# Altium integrated library Analog Devices Audio and Video Video Amps, Buffers and Filters.IntLib: 89 symbols (part 2 of 5)
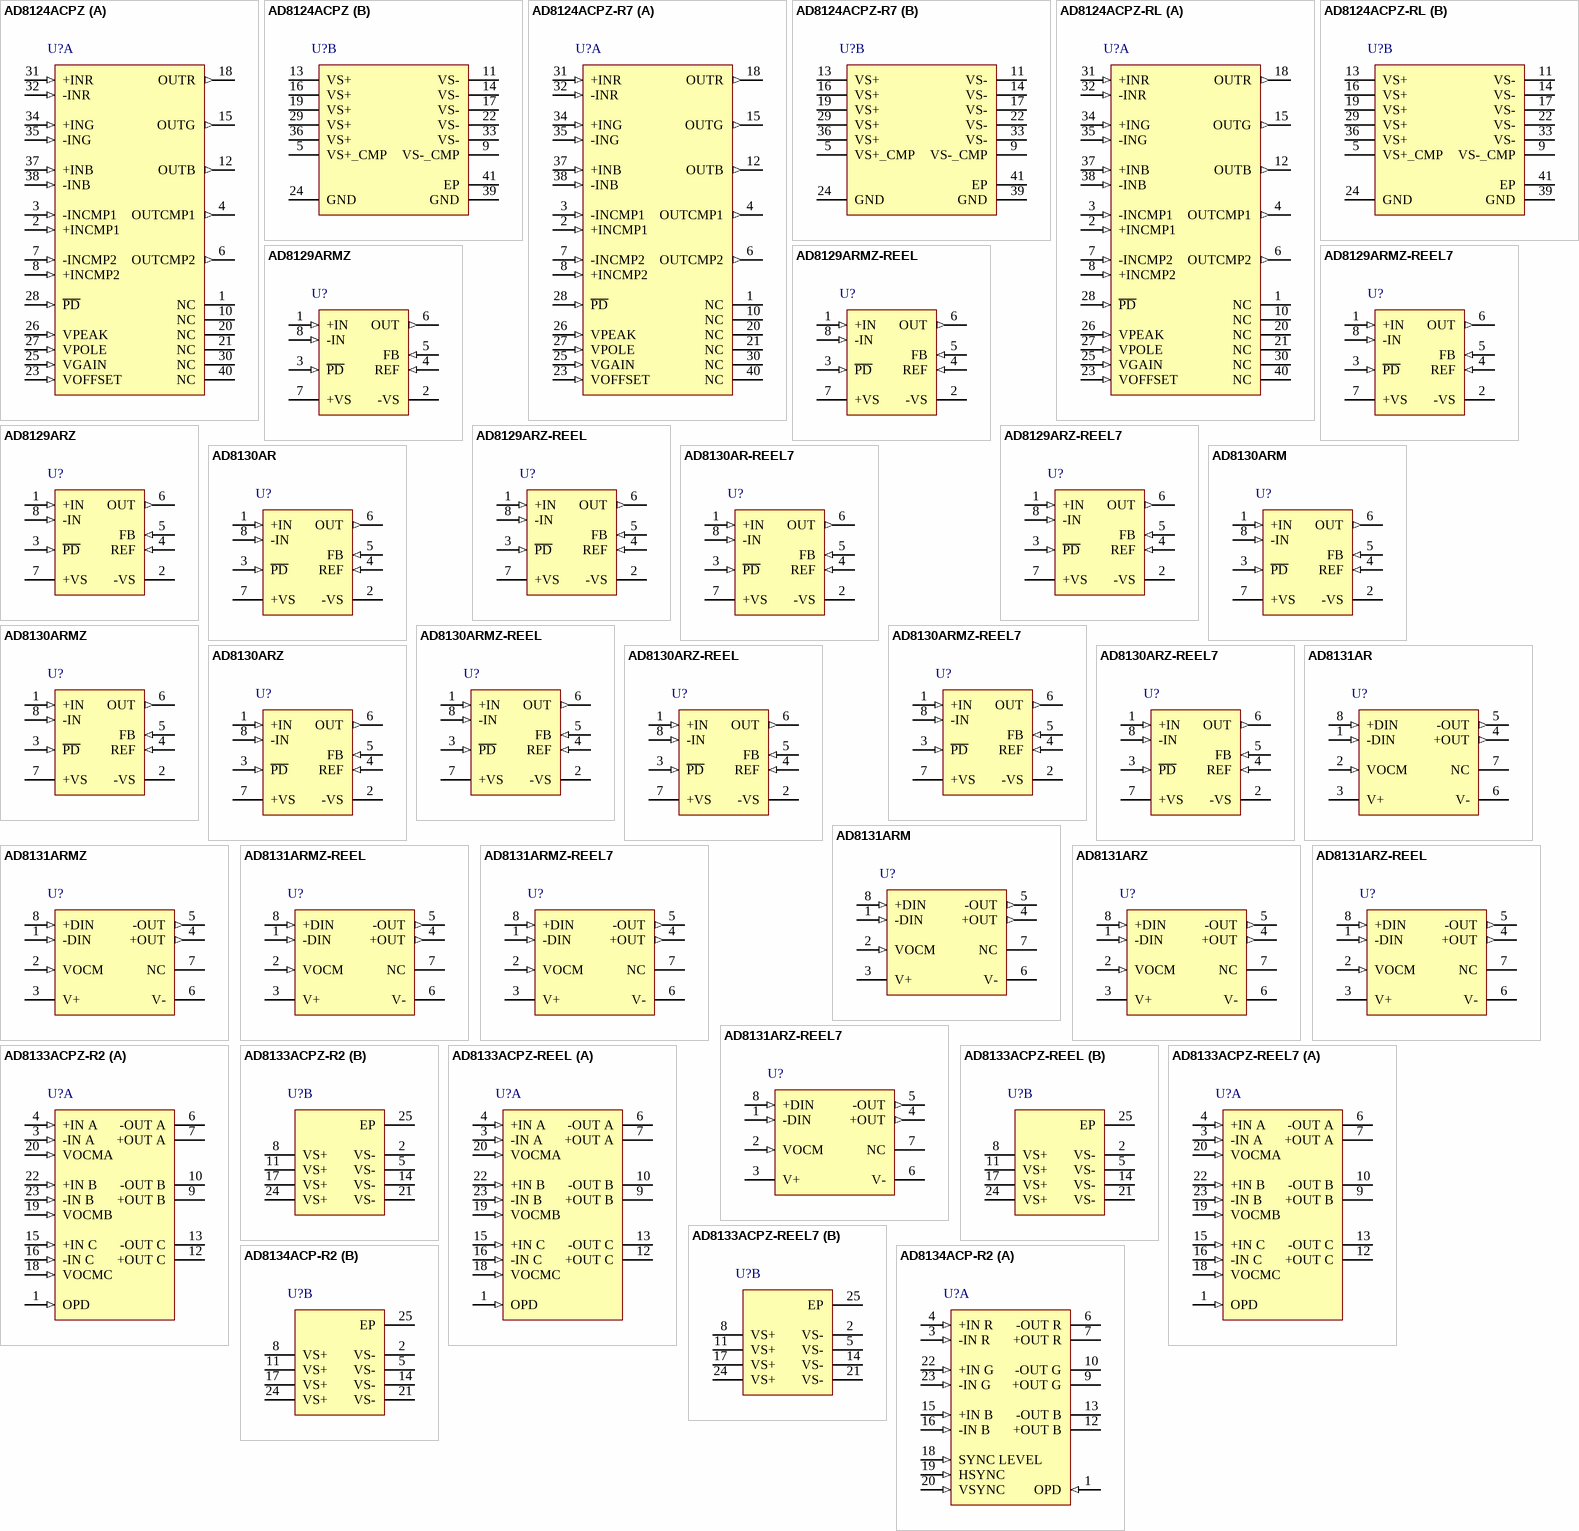
[diagram p5: symbols AD8124ACPZ to AD8134ACP-R2]

## AD8131ARZ
designator U?
Low-Cost, High Speed Differential Driver, 2.7 to 5 V Supply, 400 MHz Bandwidth, Industrial, 8-pin SOIC (R-8), Tube; Manufacturer: Analog Devices; PartNumber: AD8131ARZ; -3dB Bandwidth: 400MHz, 210MHz, 385MHz, 200MHz; 0.1 dB Flatness (MHz): 85, 65; Max Pos Supply: 5.5V, 11V; Min Pos Supply: 1.4V, 2.7V; Minimum Gain (Acl): 2; Slew Rate (V/us): 2000, 500, 1600, 450; DatasheetVersion: Rev. B; PackageVersion: 060506-A, 06/2006; PackageReference: R-8; PackageDescription: 8-Pin Standard Small Outline Package, Body 4.9 x 3.9 mm, Pitch 1.27 mm; Supplier 1: Digi-Key; Supplier Part Number 1: AD8131ARZ-ND; Supplier 2: Farnell; Supplier Part Number 2: 9603999; Supplier 3: Newark; Supplier Part Number 3: 41K1285; Supplier 4: Mouser; Supplier Part Number 4: 584-AD8131ARZ; Packing: Tube; Mounting Technology: Surface Mount; Code_JEDEC: MS-012-AA; ComponentLink1Description: Manufacturer URL; ComponentLink1URL: http://www.analog.com/en/index.html; ComponentLink2Description: Datasheet; ComponentLink2URL: http://www.analog.com/static/imported-files/data_sheets/AD8131.pdf; ComponentLink3Description: Package Specification; ComponentLink3URL: http://www.analog.com/static/imported-files/packages/PKG_PDF/SOIC_Narrow%20(R)/R_8.pdf; ComponentLink4Description: URL Link1; ComponentLink4URL: Product URL:http://www.analog.com/en/specialty-amplifiers/video-ampsbuffersfilters/ad8131/products/product.html
footprint ADI-R-8_N (SOIC, 8-Leads, Body 4.9x3.9mm, Pitch 1.27mm, IPC Medium Density)
footprint ADI-R-8_L (SOIC, 8-Leads, Body 4.9x3.9mm, Pitch 1.27mm, IPC High Density)
footprint ADI-R-8_M (SOIC, 8-Leads, Body 4.9x3.9mm, Pitch 1.27mm, IPC Low Density)
pins: 1 -DIN (in) "Negative Input.", 2 VOCM (in) "Common-Mode Output Voltage. Voltage applied to this pin sets the common-mode output voltage with a ratio of  1:1. For example, 1 V dc on VOCM will set the dc bias level on +OUT and -OUT to 1 V.", 3 V+ (power) "Positive Supply Voltage.", 4 +OUT (out) "Positive Output. Note: the voltage at -DIN is inverted at +OUT.", 5 -OUT (out) "Negative Output. Note: the voltage at +DIN is inverted at -OUT.", 6 V- (power) "Negative Supply Voltage.", 7 NC "No Connect.", 8 +DIN (in) "Positive Input."

## AD8131ARZ-REEL
designator U?
Low-Cost, High Speed Differential Driver, 2.7 to 5 V Supply, 400 MHz Bandwidth, Industrial, 8-pin SOIC (R-8), Reel; Manufacturer: Analog Devices; PartNumber: AD8131ARZ-REEL; -3dB Bandwidth: 400MHz, 210MHz, 385MHz, 200MHz; 0.1 dB Flatness (MHz): 85, 65; Max Pos Supply: 5.5V, 11V; Min Pos Supply: 1.4V, 2.7V; Minimum Gain (Acl): 2; Slew Rate (V/us): 2000, 500, 1600, 450; DatasheetVersion: Rev. B; PackageVersion: 060506-A, 06/2006; PackageReference: R-8; PackageDescription: 8-Pin Standard Small Outline Package, Body 4.9 x 3.9 mm, Pitch 1.27 mm; Supplier 1: Digi-Key; Supplier Part Number 1: AD8131ARZ-REEL-ND; Supplier 2: Newark; Supplier Part Number 2: 59K6400; Supplier 3: Mouser; Supplier Part Number 3: 584-AD8131ARZ-R; Packing: Reel; Mounting Technology: Surface Mount; Code_JEDEC: MS-012-AA; ComponentLink1Description: Manufacturer URL; ComponentLink1URL: http://www.analog.com/en/index.html; ComponentLink2Description: Datasheet; ComponentLink2URL: http://www.analog.com/static/imported-files/data_sheets/AD8131.pdf; ComponentLink3Description: Package Specification; ComponentLink3URL: http://www.analog.com/static/imported-files/packages/PKG_PDF/SOIC_Narrow%20(R)/R_8.pdf; ComponentLink4Description: URL Link1; ComponentLink4URL: Product URL:http://www.analog.com/en/specialty-amplifiers/video-ampsbuffersfilters/ad8131/products/product.html
footprint ADI-R-8_N (SOIC, 8-Leads, Body 4.9x3.9mm, Pitch 1.27mm, IPC Medium Density)
footprint ADI-R-8_L (SOIC, 8-Leads, Body 4.9x3.9mm, Pitch 1.27mm, IPC High Density)
footprint ADI-R-8_M (SOIC, 8-Leads, Body 4.9x3.9mm, Pitch 1.27mm, IPC Low Density)
pins: 1 -DIN (in) "Negative Input.", 2 VOCM (in) "Common-Mode Output Voltage. Voltage applied to this pin sets the common-mode output voltage with a ratio of  1:1. For example, 1 V dc on VOCM will set the dc bias level on +OUT and -OUT to 1 V.", 3 V+ (power) "Positive Supply Voltage.", 4 +OUT (out) "Positive Output. Note: the voltage at -DIN is inverted at +OUT.", 5 -OUT (out) "Negative Output. Note: the voltage at +DIN is inverted at -OUT.", 6 V- (power) "Negative Supply Voltage.", 7 NC "No Connect.", 8 +DIN (in) "Positive Input."

## AD8131ARZ-REEL7
designator U?
Low-Cost, High Speed Differential Driver, 2.7 to 5 V Supply, 400 MHz Bandwidth, Industrial, 8-pin SOIC (R-8), Reel; Manufacturer: Analog Devices; PartNumber: AD8131ARZ-REEL7; -3dB Bandwidth: 400MHz, 210MHz, 385MHz, 200MHz; 0.1 dB Flatness (MHz): 85, 65; Max Pos Supply: 5.5V, 11V; Min Pos Supply: 1.4V, 2.7V; Minimum Gain (Acl): 2; Slew Rate (V/us): 2000, 500, 1600, 450; DatasheetVersion: Rev. B; PackageVersion: 060506-A, 06/2006; PackageReference: R-8; PackageDescription: 8-Pin Standard Small Outline Package, Body 4.9 x 3.9 mm, Pitch 1.27 mm; Supplier 1: Digi-Key; Supplier Part Number 1: AD8131ARZ-REEL7TR-ND; Supplier 2: Digi-Key; Supplier Part Number 2: AD8131ARZ-REEL7CT-ND; Supplier 3: Digi-Key; Supplier Part Number 3: AD8131ARZ-REEL7DKR-ND; Supplier 4: Newark; Supplier Part Number 4: 59K6401; Supplier 5: Mouser; Supplier Part Number 5: 584-AD8131ARZ-R7; Packing: Reel; Mounting Technology: Surface Mount; Code_JEDEC: MS-012-AA; ComponentLink1Description: Manufacturer URL; ComponentLink1URL: http://www.analog.com/en/index.html; ComponentLink2Description: Datasheet; ComponentLink2URL: http://www.analog.com/static/imported-files/data_sheets/AD8131.pdf; ComponentLink3Description: Package Specification; ComponentLink3URL: http://www.analog.com/static/imported-files/packages/PKG_PDF/SOIC_Narrow%20(R)/R_8.pdf; ComponentLink4Description: URL Link1; ComponentLink4URL: Product URL:http://www.analog.com/en/specialty-amplifiers/video-ampsbuffersfilters/ad8131/products/product.html
footprint ADI-R-8_N (SOIC, 8-Leads, Body 4.9x3.9mm, Pitch 1.27mm, IPC Medium Density)
footprint ADI-R-8_L (SOIC, 8-Leads, Body 4.9x3.9mm, Pitch 1.27mm, IPC High Density)
footprint ADI-R-8_M (SOIC, 8-Leads, Body 4.9x3.9mm, Pitch 1.27mm, IPC Low Density)
pins: 1 -DIN (in) "Negative Input.", 2 VOCM (in) "Common-Mode Output Voltage. Voltage applied to this pin sets the common-mode output voltage with a ratio of  1:1. For example, 1 V dc on VOCM will set the dc bias level on +OUT and -OUT to 1 V.", 3 V+ (power) "Positive Supply Voltage.", 4 +OUT (out) "Positive Output. Note: the voltage at -DIN is inverted at +OUT.", 5 -OUT (out) "Negative Output. Note: the voltage at +DIN is inverted at -OUT.", 6 V- (power) "Negative Supply Voltage.", 7 NC "No Connect.", 8 +DIN (in) "Positive Input."

## AD8133ACPZ-R2
designator U?
Triple Differential Driver with Output Pulldown, 4.5 to 6 V Supply, 450 MHz Bandwidth, Industrial, 24-pin QFN (CP-24-1), Reel; Manufacturer: Analog Devices; PartNumber: AD8133ACPZ-R2; -3dB Bandwidth: 225MHz, 200MHz; 0.1 dB Flatness (MHz): 55, 50; Max Pos Supply: 6V; Min Pos Supply: 4.5V; Minimum Gain (Acl): 2; Slew Rate (V/us): 1600, 1400; DatasheetVersion: Rev. 0; PackageVersion: May-04; PackageReference: CP-24-1; PackageDescription: 24-Pin Lead Frame Chip Scale Package, Body 4 x 4 mm, Pitch 0.5 mm; Supplier 1: Mouser; Supplier Part Number 1: N/A; Packing: Reel; Mounting Technology: Surface Mount; Code_JEDEC: MO-220-VGGD-2; ComponentLink1Description: Manufacturer URL; ComponentLink1URL: http://www.analog.com/en/index.html; ComponentLink2Description: Datasheet; ComponentLink2URL: http://www.analog.com/static/imported-files/data_sheets/AD8133.pdf; ComponentLink3Description: Package Specification; ComponentLink3URL: http://www.analog.com/static/imported-files/packages/CP_24_1.pdf; ComponentLink4Description: URL Link1; ComponentLink4URL: Product URL:http://www.analog.com/en/specialty-amplifiers/video-ampsbuffersfilters/ad8133/products/product.html
footprint ADI-CP-24-1_N (QFN, 24-Leads, Body 4x4mm, Pitch 0.5mm, Thermal Pad 2.1x2.1mm, IPC Medium Density)
footprint ADI-CP-24-1_L (QFN, 24-Leads, Body 4x4mm, Pitch 0.5mm, Thermal Pad 2.1x2.1mm, IPC High Density)
footprint ADI-CP-24-1_M (QFN, 24-Leads, Body 4x4mm, Pitch 0.5mm, Thermal Pad 2.1x2.1mm, IPC Low Density)
part A pins: 1 OPD (in) "Output Pull-Down", 3 -IN A (in) "Inverting Input, Amplifier A", 4 +IN A (in) "Noninverting Input, Amplifier A", 6 -OUT A (hiz) "Negative Output, Amplifier A", 7 +OUT A (hiz) "Positive Output, Amplifier A", 9 +OUT B (hiz) "Positive Output, Amplifier B", 10 -OUT B (hiz) "Negative Output, Amplifier B", 12 +OUT C (hiz) "Positive Output, Amplifier C", 13 -OUT C (hiz) "Negative Output, Amplifier C", 15 +IN C (in) "Noninverting Input, Amplifier C", 16 -IN C (in) "Inverting Input, Amplifier C", 18 VOCMC (in) "Voltage Applied to This Pin Controls Output Common-Mode Voltage, Amplifier C", 19 VOCMB (in) "Voltage Applied to This Pin Controls Output Common-Mode Voltage, Amplifier B", 20 VOCMA (in) "Voltage Applied to This Pin Controls Output Common-Mode Voltage, Amplifier A", 22 +IN B (in) "Noninverting Input, Amplifier B", 23 -IN B (in) "Inverting Input, Amplifier B"
part B pins: 2 VS- (power) "Negative Power Supply Voltage", 5 VS- (power) "Negative Power Supply Voltage", 8 VS+ (power) "Positive Power Supply Voltage", 11 VS+ (power) "Positive Power Supply Voltage", 14 VS- (power) "Negative Power Supply Voltage", 17 VS+ (power) "Positive Power Supply Voltage", 21 VS- (power) "Negative Power Supply Voltage", 24 VS+ (power) "Positive Power Supply Voltage", 25 EP "Exposed Thermal Pad"

## AD8133ACPZ-REEL
designator U?
Triple Differential Driver with Output Pulldown, 4.5 to 6 V Supply, 450 MHz Bandwidth, Industrial, 24-pin QFN (CP-24-1), Reel; Manufacturer: Analog Devices; PartNumber: AD8133ACPZ-REEL; -3dB Bandwidth: 225MHz, 200MHz; 0.1 dB Flatness (MHz): 55, 50; Max Pos Supply: 6V; Min Pos Supply: 4.5V; Minimum Gain (Acl): 2; Slew Rate (V/us): 1600, 1400; DatasheetVersion: Rev. 0; PackageVersion: May-04; PackageReference: CP-24-1; PackageDescription: 24-Pin Lead Frame Chip Scale Package, Body 4 x 4 mm, Pitch 0.5 mm; Supplier 1: Digi-Key; Supplier Part Number 1: AD8133ACPZ-REEL-ND; Supplier 2: Newark; Supplier Part Number 2: 59K6408; Supplier 3: Mouser; Supplier Part Number 3: 584-AD8133ACPZ-R; Packing: Reel; Mounting Technology: Surface Mount; Code_JEDEC: MO-220-VGGD-2; ComponentLink1Description: Manufacturer URL; ComponentLink1URL: http://www.analog.com/en/index.html; ComponentLink2Description: Datasheet; ComponentLink2URL: http://www.analog.com/static/imported-files/data_sheets/AD8133.pdf; ComponentLink3Description: Package Specification; ComponentLink3URL: http://www.analog.com/static/imported-files/packages/CP_24_1.pdf; ComponentLink4Description: URL Link1; ComponentLink4URL: Product URL:http://www.analog.com/en/specialty-amplifiers/video-ampsbuffersfilters/ad8133/products/product.html
footprint ADI-CP-24-1_N (QFN, 24-Leads, Body 4x4mm, Pitch 0.5mm, Thermal Pad 2.1x2.1mm, IPC Medium Density)
footprint ADI-CP-24-1_L (QFN, 24-Leads, Body 4x4mm, Pitch 0.5mm, Thermal Pad 2.1x2.1mm, IPC High Density)
footprint ADI-CP-24-1_M (QFN, 24-Leads, Body 4x4mm, Pitch 0.5mm, Thermal Pad 2.1x2.1mm, IPC Low Density)
part A pins: 1 OPD (in) "Output Pull-Down", 3 -IN A (in) "Inverting Input, Amplifier A", 4 +IN A (in) "Noninverting Input, Amplifier A", 6 -OUT A (hiz) "Negative Output, Amplifier A", 7 +OUT A (hiz) "Positive Output, Amplifier A", 9 +OUT B (hiz) "Positive Output, Amplifier B", 10 -OUT B (hiz) "Negative Output, Amplifier B", 12 +OUT C (hiz) "Positive Output, Amplifier C", 13 -OUT C (hiz) "Negative Output, Amplifier C", 15 +IN C (in) "Noninverting Input, Amplifier C", 16 -IN C (in) "Inverting Input, Amplifier C", 18 VOCMC (in) "Voltage Applied to This Pin Controls Output Common-Mode Voltage, Amplifier C", 19 VOCMB (in) "Voltage Applied to This Pin Controls Output Common-Mode Voltage, Amplifier B", 20 VOCMA (in) "Voltage Applied to This Pin Controls Output Common-Mode Voltage, Amplifier A", 22 +IN B (in) "Noninverting Input, Amplifier B", 23 -IN B (in) "Inverting Input, Amplifier B"
part B pins: 2 VS- (power) "Negative Power Supply Voltage", 5 VS- (power) "Negative Power Supply Voltage", 8 VS+ (power) "Positive Power Supply Voltage", 11 VS+ (power) "Positive Power Supply Voltage", 14 VS- (power) "Negative Power Supply Voltage", 17 VS+ (power) "Positive Power Supply Voltage", 21 VS- (power) "Negative Power Supply Voltage", 24 VS+ (power) "Positive Power Supply Voltage", 25 EP "Exposed Thermal Pad"

## AD8133ACPZ-REEL7
designator U?
Triple Differential Driver with Output Pulldown, 4.5 to 6 V Supply, 450 MHz Bandwidth, Industrial, 24-pin QFN (CP-24-1), Reel; Manufacturer: Analog Devices; PartNumber: AD8133ACPZ-REEL7; -3dB Bandwidth: 225MHz, 200MHz; 0.1 dB Flatness (MHz): 55, 50; Max Pos Supply: 6V; Min Pos Supply: 4.5V; Minimum Gain (Acl): 2; Slew Rate (V/us): 1600, 1400; DatasheetVersion: Rev. 0; PackageVersion: May-04; PackageReference: CP-24-1; PackageDescription: 24-Pin Lead Frame Chip Scale Package, Body 4 x 4 mm, Pitch 0.5 mm; Supplier 1: Digi-Key; Supplier Part Number 1: AD8133ACPZ-REEL7TR-ND; Supplier 2: Digi-Key; Supplier Part Number 2: AD8133ACPZ-REEL7CT-ND; Supplier 3: Digi-Key; Supplier Part Number 3: AD8133ACPZ-REEL7DKR-ND; Supplier 4: Mouser; Supplier Part Number 4: 584-AD8133ACPZ-R7; Packing: Reel; Mounting Technology: Surface Mount; Code_JEDEC: MO-220-VGGD-2; ComponentLink1Description: Manufacturer URL; ComponentLink1URL: http://www.analog.com/en/index.html; ComponentLink2Description: Datasheet; ComponentLink2URL: http://www.analog.com/static/imported-files/data_sheets/AD8133.pdf; ComponentLink3Description: Package Specification; ComponentLink3URL: http://www.analog.com/static/imported-files/packages/CP_24_1.pdf; ComponentLink4Description: URL Link1; ComponentLink4URL: Product URL:http://www.analog.com/en/specialty-amplifiers/video-ampsbuffersfilters/ad8133/products/product.html
footprint ADI-CP-24-1_N (QFN, 24-Leads, Body 4x4mm, Pitch 0.5mm, Thermal Pad 2.1x2.1mm, IPC Medium Density)
footprint ADI-CP-24-1_L (QFN, 24-Leads, Body 4x4mm, Pitch 0.5mm, Thermal Pad 2.1x2.1mm, IPC High Density)
footprint ADI-CP-24-1_M (QFN, 24-Leads, Body 4x4mm, Pitch 0.5mm, Thermal Pad 2.1x2.1mm, IPC Low Density)
part A pins: 1 OPD (in) "Output Pull-Down", 3 -IN A (in) "Inverting Input, Amplifier A", 4 +IN A (in) "Noninverting Input, Amplifier A", 6 -OUT A (hiz) "Negative Output, Amplifier A", 7 +OUT A (hiz) "Positive Output, Amplifier A", 9 +OUT B (hiz) "Positive Output, Amplifier B", 10 -OUT B (hiz) "Negative Output, Amplifier B", 12 +OUT C (hiz) "Positive Output, Amplifier C", 13 -OUT C (hiz) "Negative Output, Amplifier C", 15 +IN C (in) "Noninverting Input, Amplifier C", 16 -IN C (in) "Inverting Input, Amplifier C", 18 VOCMC (in) "Voltage Applied to This Pin Controls Output Common-Mode Voltage, Amplifier C", 19 VOCMB (in) "Voltage Applied to This Pin Controls Output Common-Mode Voltage, Amplifier B", 20 VOCMA (in) "Voltage Applied to This Pin Controls Output Common-Mode Voltage, Amplifier A", 22 +IN B (in) "Noninverting Input, Amplifier B", 23 -IN B (in) "Inverting Input, Amplifier B"
part B pins: 2 VS- (power) "Negative Power Supply Voltage", 5 VS- (power) "Negative Power Supply Voltage", 8 VS+ (power) "Positive Power Supply Voltage", 11 VS+ (power) "Positive Power Supply Voltage", 14 VS- (power) "Negative Power Supply Voltage", 17 VS+ (power) "Positive Power Supply Voltage", 21 VS- (power) "Negative Power Supply Voltage", 24 VS+ (power) "Positive Power Supply Voltage", 25 EP "Exposed Thermal Pad"

## AD8134ACP-R2
designator U?
Triple Differential Driver with Sync-On-Common-Mode, 4.5 to 6 V Supply, 450 MHz Bandwidth, Industrial, 24-pin QFN (CP-24-2), Reel; Manufacturer: Analog Devices; PartNumber: AD8134ACP-R2; -3dB Bandwidth: 225MHz, 200MHz; 0.1 dB Flatness (MHz): 55; Max Pos Supply: 6V; Min Pos Supply: 4.5V; Minimum Gain (Acl): 2; Slew Rate (V/us): 1600, 1400; DatasheetVersion: Rev. A; PackageVersion: Jan-05; PackageReference: CP-24-2; PackageDescription: 24-Pin Lead Frame Chip Scale Package, Body 4 x 4 mm, Pitch 0.5 mm; Supplier 1: Mouser; Supplier Part Number 1: N/A; Packing: Reel; Mounting Technology: Surface Mount; Code_JEDEC: MO-220-VGGD-2; ComponentLink1Description: Manufacturer URL; ComponentLink1URL: http://www.analog.com/en/index.html; ComponentLink2Description: Datasheet; ComponentLink2URL: http://www.analog.com/static/imported-files/data_sheets/AD8134.pdf; ComponentLink3Description: Package Specification; ComponentLink3URL: http:/www.analog.com/static/imported-files/packages/588305704543880784658541CP_24_2.pdf; ComponentLink4Description: URL Link1; ComponentLink4URL: Product URL:http://www.analog.com/en/specialty-amplifiers/video-ampsbuffersfilters/ad8134/products/product.html
footprint ADI-CP-24-2_N (QFN, 24-Leads, Body 4x4mm, Pitch 0.5mm, Thermal Pad 2.3x2.3mm, IPC Medium Density)
footprint ADI-CP-24-2_L (QFN, 24-Leads, Body 4x4mm, Pitch 0.5mm, Thermal Pad 2.3x2.3mm, IPC High Density)
footprint ADI-CP-24-2_M (QFN, 24-Leads, Body 4x4mm, Pitch 0.5mm, Thermal Pad 2.3x2.3mm, IPC Low Density)
part A pins: 1 OPD (in) "Output Pull Down.", 3 -IN R (in) "Inverting Input, Red Amplifier.", 4 +IN R (in) "Noninverting Input, Red Amplifier.", 6 -OUT R (hiz) "Negative Output, Red Amplifier.", 7 +OUT R (hiz) "Positive Output, Red Amplifier.", 9 +OUT G (hiz) "Positive Output, Green Amplifier.", 10 -OUT G (hiz) "Negative Output, Green Amplifier.", 12 +OUT B (hiz) "Positive Output, Blue Amplifier.", 13 -OUT B (hiz) "Negative Output, Blue Amplifier.", 15 +IN B (in) "Noninverting Input, Blue Amplifier.", 16 -IN B (in) "Inverting Input, Blue Amplifier.", 18 SYNC LEVEL (in) "The voltage applied to this pin controls the amplitude of the sync pulses that are applied to the common-mode voltages.", 19 HSYNC (in) "Horizontal Sync Pulse Input.", 20 VSYNC (in) "Vertical Sync Pulse Input.", 22 +IN G (in) "Noninverting Input, Green Amplifier.", 23 -IN G (in) "Inverting Input, Green Amplifier."
part B pins: 2 VS- (power) "Negative Power Supply Voltage.", 5 VS- (power) "Negative Power Supply Voltage.", 8 VS+ (power) "Positive Power Supply Voltage.", 11 VS+ (power) "Positive Power Supply Voltage.", 14 VS- (power) "Negative Power Supply Voltage.", 17 VS+ (power) "Positive Power Supply Voltage.", 21 VS- (power) "Negative Power Supply Voltage.", 24 VS+ (power) "Positive Power Supply Voltage.", 25 EP "Exposed Thermal Pad."

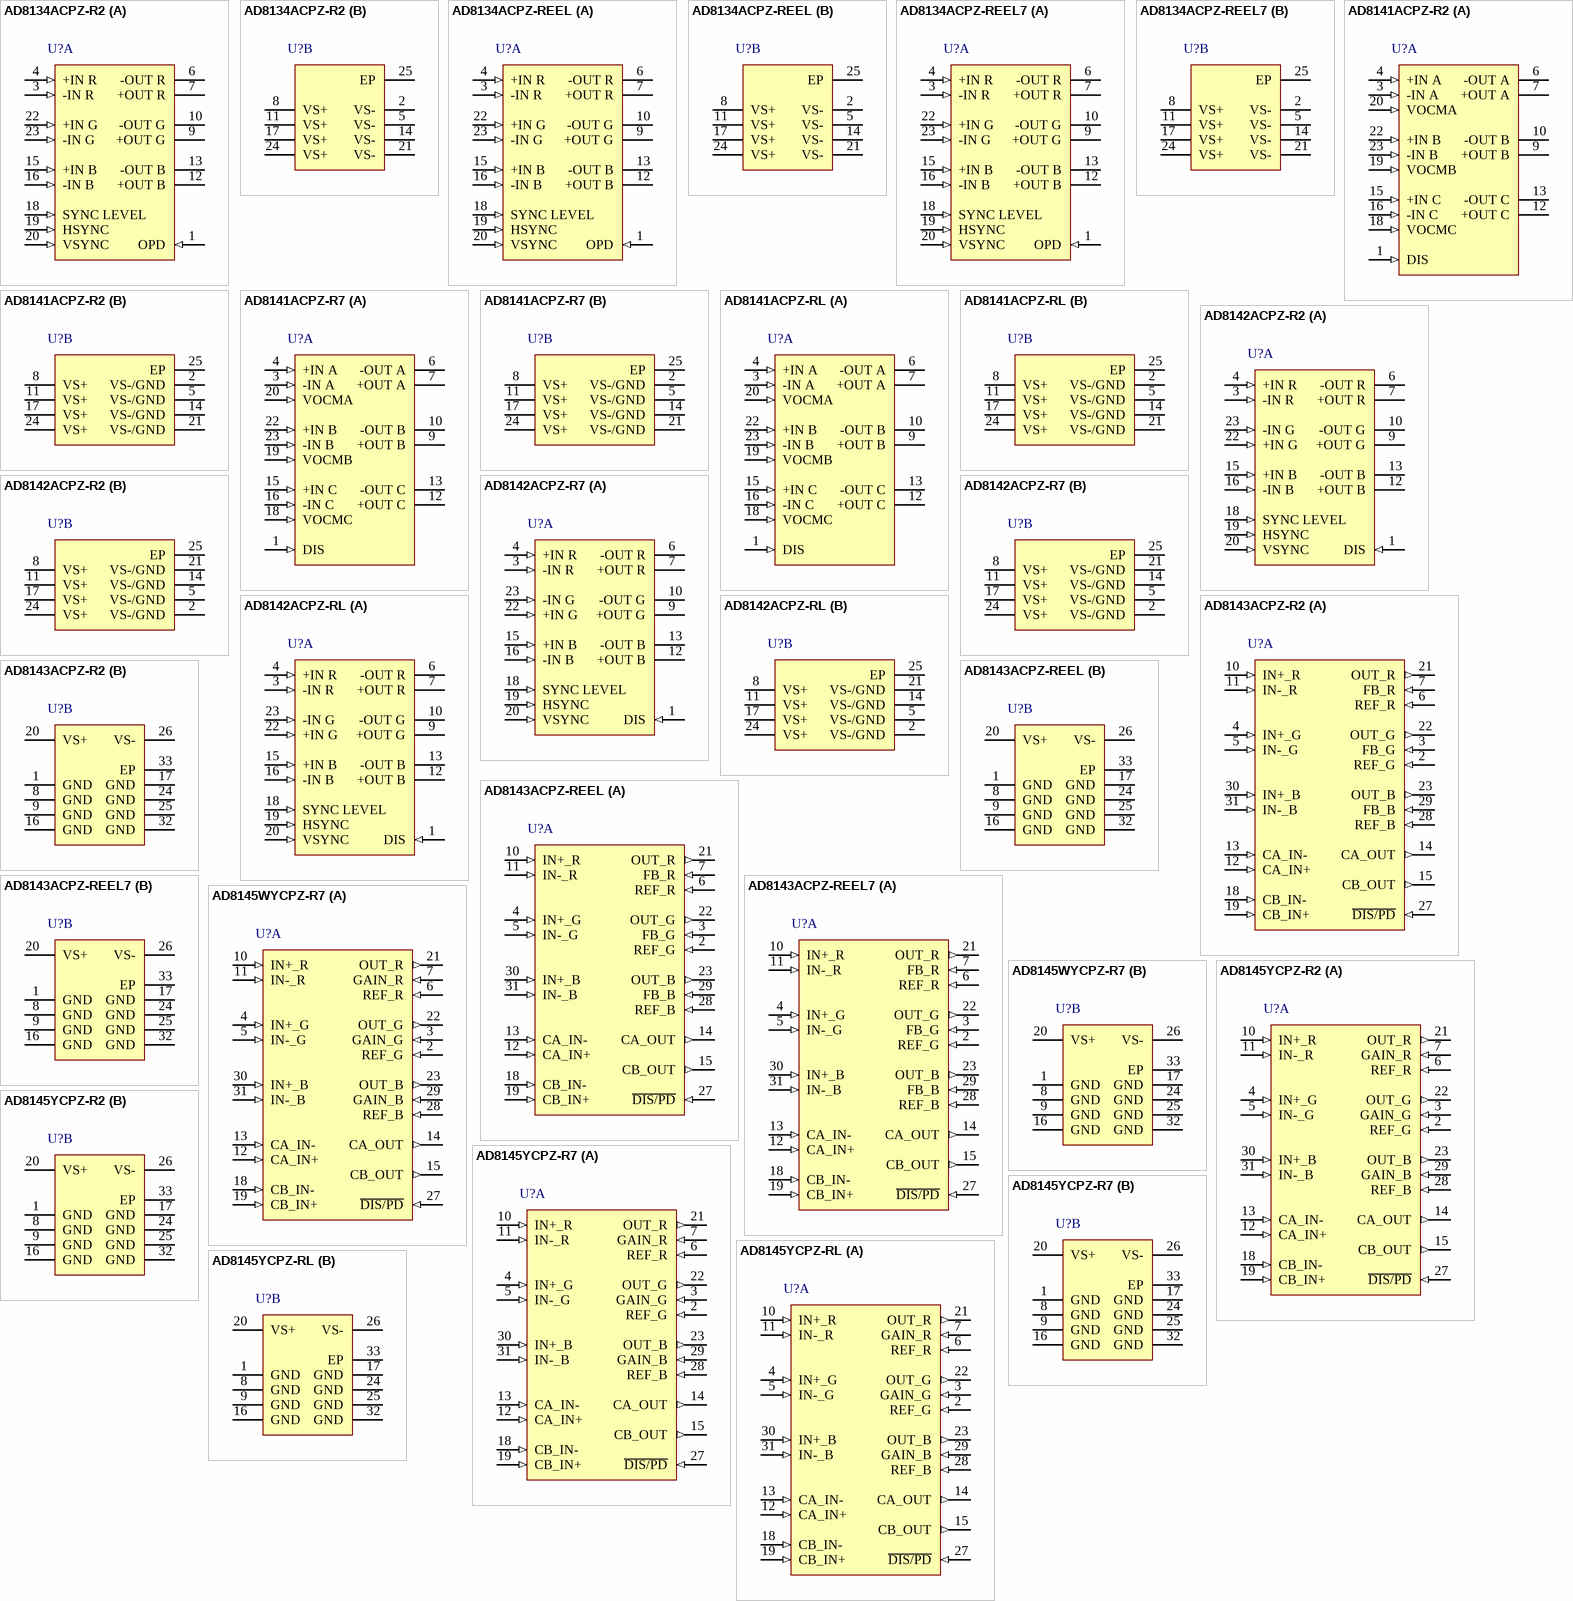
[diagram p1: symbols AD8134ACPZ-R2 to AD8145YCPZ-RL]

## AD8134ACPZ-R2
designator U?
Triple Differential Driver with Sync-On-Common-Mode, 4.5 to 6 V Supply, 450 MHz Bandwidth, Industrial, 24-pin QFN (CP-24-2), Reel; Manufacturer: Analog Devices; PartNumber: AD8134ACPZ-R2; -3dB Bandwidth: 225MHz, 200MHz; 0.1 dB Flatness (MHz): 55; Max Pos Supply: 6V, 6V; Min Pos Supply: 4.5V, 4.5V; Minimum Gain (Acl): 2; Slew Rate (V/us): 1600, 1400; DatasheetVersion: Rev. A; PackageVersion: Jan-05; PackageReference: CP-24-2; PackageDescription: 24-Pin Lead Frame Chip Scale Package, Body 4 x 4 mm, Pitch 0.5 mm; Supplier 1: Mouser; Supplier Part Number 1: N/A; Packing: Reel; Mounting Technology: Surface Mount; Code_JEDEC: MO-220-VGGD-2; ComponentLink1Description: Manufacturer URL; ComponentLink1URL: http://www.analog.com/en/index.html; ComponentLink2Description: Datasheet; ComponentLink2URL: http://www.analog.com/static/imported-files/data_sheets/AD8134.pdf; ComponentLink3Description: Package Specification; ComponentLink3URL: http:/www.analog.com/static/imported-files/packages/588305704543880784658541CP_24_2.pdf; ComponentLink4Description: URL Link1; ComponentLink4URL: Product URL:http://www.analog.com/en/specialty-amplifiers/video-ampsbuffersfilters/ad8134/products/product.html
footprint ADI-CP-24-2_N (QFN, 24-Leads, Body 4x4mm, Pitch 0.5mm, Thermal Pad 2.3x2.3mm, IPC Medium Density)
footprint ADI-CP-24-2_L (QFN, 24-Leads, Body 4x4mm, Pitch 0.5mm, Thermal Pad 2.3x2.3mm, IPC High Density)
footprint ADI-CP-24-2_M (QFN, 24-Leads, Body 4x4mm, Pitch 0.5mm, Thermal Pad 2.3x2.3mm, IPC Low Density)
part A pins: 1 OPD (in) "Output Pull Down.", 3 -IN R (in) "Inverting Input, Red Amplifier.", 4 +IN R (in) "Noninverting Input, Red Amplifier.", 6 -OUT R (hiz) "Negative Output, Red Amplifier.", 7 +OUT R (hiz) "Positive Output, Red Amplifier.", 9 +OUT G (hiz) "Positive Output, Green Amplifier.", 10 -OUT G (hiz) "Negative Output, Green Amplifier.", 12 +OUT B (hiz) "Positive Output, Blue Amplifier.", 13 -OUT B (hiz) "Negative Output, Blue Amplifier.", 15 +IN B (in) "Noninverting Input, Blue Amplifier.", 16 -IN B (in) "Inverting Input, Blue Amplifier.", 18 SYNC LEVEL (in) "The voltage applied to this pin controls the amplitude of the sync pulses that are applied to the common-mode voltages.", 19 HSYNC (in) "Horizontal Sync Pulse Input.", 20 VSYNC (in) "Vertical Sync Pulse Input.", 22 +IN G (in) "Noninverting Input, Green Amplifier.", 23 -IN G (in) "Inverting Input, Green Amplifier."
part B pins: 2 VS- (power) "Negative Power Supply Voltage.", 5 VS- (power) "Negative Power Supply Voltage.", 8 VS+ (power) "Positive Power Supply Voltage.", 11 VS+ (power) "Positive Power Supply Voltage.", 14 VS- (power) "Negative Power Supply Voltage.", 17 VS+ (power) "Positive Power Supply Voltage.", 21 VS- (power) "Negative Power Supply Voltage.", 24 VS+ (power) "Positive Power Supply Voltage.", 25 EP "Exposed Thermal Pad."

## AD8134ACPZ-REEL
designator U?
Triple Differential Driver with Sync-On-Common-Mode, 4.5 to 6 V Supply, 450 MHz Bandwidth, Industrial, 24-pin QFN (CP-24-2), Reel; Manufacturer: Analog Devices; PartNumber: AD8134ACPZ-REEL; -3dB Bandwidth: 225MHz, 200MHz; 0.1 dB Flatness (MHz): 55; Max Pos Supply: 6V, 6V; Min Pos Supply: 4.5V, 4.5V; Minimum Gain (Acl): 2; Slew Rate (V/us): 1600, 1400; DatasheetVersion: Rev. A; PackageVersion: Jan-05; PackageReference: CP-24-2; PackageDescription: 24-Pin Lead Frame Chip Scale Package, Body 4 x 4 mm, Pitch 0.5 mm; Supplier 1: Digi-Key; Supplier Part Number 1: AD8134ACPZ-REEL-ND; Supplier 2: Mouser; Supplier Part Number 2: 584-AD8134ACPZ-R; Packing: Reel; Mounting Technology: Surface Mount; Code_JEDEC: MO-220-VGGD-2; ComponentLink1Description: Manufacturer URL; ComponentLink1URL: http://www.analog.com/en/index.html; ComponentLink2Description: Datasheet; ComponentLink2URL: http://www.analog.com/static/imported-files/data_sheets/AD8134.pdf; ComponentLink3Description: Package Specification; ComponentLink3URL: http:/www.analog.com/static/imported-files/packages/588305704543880784658541CP_24_2.pdf; ComponentLink4Description: URL Link1; ComponentLink4URL: Product URL:http://www.analog.com/en/specialty-amplifiers/video-ampsbuffersfilters/ad8134/products/product.html
footprint ADI-CP-24-2_N (QFN, 24-Leads, Body 4x4mm, Pitch 0.5mm, Thermal Pad 2.3x2.3mm, IPC Medium Density)
footprint ADI-CP-24-2_L (QFN, 24-Leads, Body 4x4mm, Pitch 0.5mm, Thermal Pad 2.3x2.3mm, IPC High Density)
footprint ADI-CP-24-2_M (QFN, 24-Leads, Body 4x4mm, Pitch 0.5mm, Thermal Pad 2.3x2.3mm, IPC Low Density)
part A pins: 1 OPD (in) "Output Pull Down.", 3 -IN R (in) "Inverting Input, Red Amplifier.", 4 +IN R (in) "Noninverting Input, Red Amplifier.", 6 -OUT R (hiz) "Negative Output, Red Amplifier.", 7 +OUT R (hiz) "Positive Output, Red Amplifier.", 9 +OUT G (hiz) "Positive Output, Green Amplifier.", 10 -OUT G (hiz) "Negative Output, Green Amplifier.", 12 +OUT B (hiz) "Positive Output, Blue Amplifier.", 13 -OUT B (hiz) "Negative Output, Blue Amplifier.", 15 +IN B (in) "Noninverting Input, Blue Amplifier.", 16 -IN B (in) "Inverting Input, Blue Amplifier.", 18 SYNC LEVEL (in) "The voltage applied to this pin controls the amplitude of the sync pulses that are applied to the common-mode voltages.", 19 HSYNC (in) "Horizontal Sync Pulse Input.", 20 VSYNC (in) "Vertical Sync Pulse Input.", 22 +IN G (in) "Noninverting Input, Green Amplifier.", 23 -IN G (in) "Inverting Input, Green Amplifier."
part B pins: 2 VS- (power) "Negative Power Supply Voltage.", 5 VS- (power) "Negative Power Supply Voltage.", 8 VS+ (power) "Positive Power Supply Voltage.", 11 VS+ (power) "Positive Power Supply Voltage.", 14 VS- (power) "Negative Power Supply Voltage.", 17 VS+ (power) "Positive Power Supply Voltage.", 21 VS- (power) "Negative Power Supply Voltage.", 24 VS+ (power) "Positive Power Supply Voltage.", 25 EP "Exposed Thermal Pad."

## AD8134ACPZ-REEL7
designator U?
Triple Differential Driver with Sync-On-Common-Mode, 4.5 to 6 V Supply, 450 MHz Bandwidth, Industrial, 24-pin QFN (CP-24-2), Reel; Manufacturer: Analog Devices; PartNumber: AD8134ACPZ-REEL7; -3dB Bandwidth: 225MHz, 200MHz; 0.1 dB Flatness (MHz): 55; Max Pos Supply: 6V, 6V; Min Pos Supply: 4.5V, 4.5V; Minimum Gain (Acl): 2; Slew Rate (V/us): 1600, 1400; DatasheetVersion: Rev. A; PackageVersion: Jan-05; PackageReference: CP-24-2; PackageDescription: 24-Pin Lead Frame Chip Scale Package, Body 4 x 4 mm, Pitch 0.5 mm; Supplier 1: Digi-Key; Supplier Part Number 1: AD8134ACPZ-REEL7TR-ND; Supplier 2: Digi-Key; Supplier Part Number 2: AD8134ACPZ-REEL7CT-ND; Supplier 3: Digi-Key; Supplier Part Number 3: AD8134ACPZ-REEL7DKR-ND; Supplier 4: Mouser; Supplier Part Number 4: 584-AD8134ACPZ-R7; Packing: Reel; Mounting Technology: Surface Mount; Code_JEDEC: MO-220-VGGD-2; ComponentLink1Description: Manufacturer URL; ComponentLink1URL: http://www.analog.com/en/index.html; ComponentLink2Description: Datasheet; ComponentLink2URL: http://www.analog.com/static/imported-files/data_sheets/AD8134.pdf; ComponentLink3Description: Package Specification; ComponentLink3URL: http:/www.analog.com/static/imported-files/packages/588305704543880784658541CP_24_2.pdf; ComponentLink4Description: URL Link1; ComponentLink4URL: Product URL:http://www.analog.com/en/specialty-amplifiers/video-ampsbuffersfilters/ad8134/products/product.html
footprint ADI-CP-24-2_N (QFN, 24-Leads, Body 4x4mm, Pitch 0.5mm, Thermal Pad 2.3x2.3mm, IPC Medium Density)
footprint ADI-CP-24-2_L (QFN, 24-Leads, Body 4x4mm, Pitch 0.5mm, Thermal Pad 2.3x2.3mm, IPC High Density)
footprint ADI-CP-24-2_M (QFN, 24-Leads, Body 4x4mm, Pitch 0.5mm, Thermal Pad 2.3x2.3mm, IPC Low Density)
part A pins: 1 OPD (in) "Output Pull Down.", 3 -IN R (in) "Inverting Input, Red Amplifier.", 4 +IN R (in) "Noninverting Input, Red Amplifier.", 6 -OUT R (hiz) "Negative Output, Red Amplifier.", 7 +OUT R (hiz) "Positive Output, Red Amplifier.", 9 +OUT G (hiz) "Positive Output, Green Amplifier.", 10 -OUT G (hiz) "Negative Output, Green Amplifier.", 12 +OUT B (hiz) "Positive Output, Blue Amplifier.", 13 -OUT B (hiz) "Negative Output, Blue Amplifier.", 15 +IN B (in) "Noninverting Input, Blue Amplifier.", 16 -IN B (in) "Inverting Input, Blue Amplifier.", 18 SYNC LEVEL (in) "The voltage applied to this pin controls the amplitude of the sync pulses that are applied to the common-mode voltages.", 19 HSYNC (in) "Horizontal Sync Pulse Input.", 20 VSYNC (in) "Vertical Sync Pulse Input.", 22 +IN G (in) "Noninverting Input, Green Amplifier.", 23 -IN G (in) "Inverting Input, Green Amplifier."
part B pins: 2 VS- (power) "Negative Power Supply Voltage.", 5 VS- (power) "Negative Power Supply Voltage.", 8 VS+ (power) "Positive Power Supply Voltage.", 11 VS+ (power) "Positive Power Supply Voltage.", 14 VS- (power) "Negative Power Supply Voltage.", 17 VS+ (power) "Positive Power Supply Voltage.", 21 VS- (power) "Negative Power Supply Voltage.", 24 VS+ (power) "Positive Power Supply Voltage.", 25 EP "Exposed Thermal Pad."

## AD8141ACPZ-R2
designator U?
Low Cost, Triple Differential Drivers for Wideband Video, 4.5 to 5.5 V Supply, 255 MHz Bandwidth, Industrial, 24-pin QFN (CP-24-7), Reel; Manufacturer: Analog Devices; PartNumber: AD8141ACPZ-R2; -3dB Bandwidth: 255MHz; 0.1 dB Flatness (MHz): 65; Max Pos Supply: 5.5V; Min Pos Supply: 4.5V; Slew Rate (V/us): 1150; DatasheetVersion: Rev. 0; PackageVersion: 112108-A, 11/2008; PackageReference: CP-24-7; PackageDescription: 24-Pin Lead Frame Chip Scale Package, Body 4 x 4 mm, Pitch 0.5 mm; Supplier 1: Farnell; Supplier Part Number 1: 2353503; Supplier 2: Newark; Supplier Part Number 2: 18X0798; Supplier 3: Mouser; Supplier Part Number 3: N/A; Packing: Reel; Mounting Technology: Surface Mount; Code_JEDEC: MO-220-WGGD; ComponentLink1Description: Manufacturer URL; ComponentLink1URL: http://www.analog.com/en/index.html; ComponentLink2Description: Datasheet; ComponentLink2URL: http://www.analog.com/static/imported-files/data_sheets/AD8141_8142.pdf; ComponentLink3Description: Package Specification; ComponentLink3URL: http://www.analog.com/static/imported-files/packages/PKG_PDF/LFCSP(CP)/CP_24_7.pdf; ComponentLink4Description: URL Link1; ComponentLink4URL: Product URL:http://www.analog.com/en/specialty-amplifiers/video-ampsbuffersfilters/ad8141/products/product.html
footprint ADI-CP-24-7_N (QFN, 24-Leads, Body 4x4mm, Pitch 0.5mm, Thermal Pad 2.55x2.55mm, IPC Medium Density)
footprint ADI-CP-24-7_L (QFN, 24-Leads, Body 4x4mm, Pitch 0.5mm, Thermal Pad 2.55x2.55mm, IPC High Density)
footprint ADI-CP-24-7_M (QFN, 24-Leads, Body 4x4mm, Pitch 0.5mm, Thermal Pad 2.55x2.55mm, IPC Low Density)
part A pins: 1 DIS (in) "Disable. This pin places outputs in high-Z condition and lowers supply current.", 3 -IN A (in) "Inverting Input, Amplifier A.", 4 +IN A (in) "Noninverting Input, Amplifier A.", 6 -OUT A (hiz) "Negative Output, Amplifier A.", 7 +OUT A (hiz) "Positive Output, Amplifier A.", 9 +OUT B (hiz) "Positive Output, Amplifier B.", 10 -OUT B (hiz) "Negative Output, Amplifier B.", 12 +OUT C (hiz) "Positive Output, Amplifier C.", 13 -OUT C (hiz) "Negative Output, Amplifier C.", 15 +IN C (in) "Noninverting Input, Blue Amplifier.", 16 -IN C (in) "Noninverting Input, Amplifier C.", 18 VOCMC (in) "The voltage applied to this pin controls the output common-mode voltage for Amplifier C.", 19 VOCMB (in) "The voltage applied to this pin controls the output common-mode voltage for Amplifier B.", 20 VOCMA (in) "The voltage applied to this pin controls the output common-mode voltage for Amplifier A.", 22 +IN B (in) "Noninverting Input, Amplifier B.", 23 -IN B (in) "Inverting Input, Amplifier B."
part B pins: 2 VS-/GND (power) "Negative Power Supply Voltage. GND is for single 5 V applications.", 5 VS-/GND (power) "Negative Power Supply Voltage. GND is for single 5 V applications.", 8 VS+ (power) "Positive Power Supply Voltage.", 11 VS+ (power) "Positive Power Supply Voltage.", 14 VS-/GND (power) "Negative Power Supply Voltage. GND is for single 5 V applications.", 17 VS+ (power) "Inverting Input, Amplifier C.", 21 VS-/GND (power) "Negative Power Supply Voltage. GND is for single 5 V applications.", 24 VS+ (power) "Positive Power Supply Voltage.", 25 EP (power) "Connect Exposed Paddle to Ground."

## AD8141ACPZ-R7
designator U?
Low Cost, Triple Differential Drivers for Wideband Video, 4.5 to 5.5 V Supply, 255 MHz Bandwidth, Industrial, 24-pin QFN (CP-24-7), Reel; Manufacturer: Analog Devices; PartNumber: AD8141ACPZ-R7; -3dB Bandwidth: 255MHz; 0.1 dB Flatness (MHz): 65; Max Pos Supply: 5.5V; Min Pos Supply: 4.5V; Slew Rate (V/us): 1150; DatasheetVersion: Rev. 0; PackageVersion: 112108-A, 11/2008; PackageReference: CP-24-7; PackageDescription: 24-Pin Lead Frame Chip Scale Package, Body 4 x 4 mm, Pitch 0.5 mm; Supplier 1: Digi-Key; Supplier Part Number 1: AD8141ACPZ-R7TR-ND; Supplier 2: Digi-Key; Supplier Part Number 2: AD8141ACPZ-R7CT-ND; Supplier 3: Digi-Key; Supplier Part Number 3: AD8141ACPZ-R7DKR-ND; Supplier 4: Farnell; Supplier Part Number 4: 2008666; Supplier 5: Newark; Supplier Part Number 5: 59T9898; Supplier 6: Mouser; Supplier Part Number 6: 584-AD8141ACPZ-R7; Packing: Reel; Mounting Technology: Surface Mount; Code_JEDEC: MO-220-WGGD; ComponentLink1Description: Manufacturer URL; ComponentLink1URL: http://www.analog.com/en/index.html; ComponentLink2Description: Datasheet; ComponentLink2URL: http://www.analog.com/static/imported-files/data_sheets/AD8141_8142.pdf; ComponentLink3Description: Package Specification; ComponentLink3URL: http://www.analog.com/static/imported-files/packages/PKG_PDF/LFCSP(CP)/CP_24_7.pdf; ComponentLink4Description: URL Link1; ComponentLink4URL: Product URL:http://www.analog.com/en/specialty-amplifiers/video-ampsbuffersfilters/ad8141/products/product.html
footprint ADI-CP-24-7_N (QFN, 24-Leads, Body 4x4mm, Pitch 0.5mm, Thermal Pad 2.55x2.55mm, IPC Medium Density)
footprint ADI-CP-24-7_L (QFN, 24-Leads, Body 4x4mm, Pitch 0.5mm, Thermal Pad 2.55x2.55mm, IPC High Density)
footprint ADI-CP-24-7_M (QFN, 24-Leads, Body 4x4mm, Pitch 0.5mm, Thermal Pad 2.55x2.55mm, IPC Low Density)
part A pins: 1 DIS (in) "Disable. This pin places outputs in high-Z condition and lowers supply current.", 3 -IN A (in) "Inverting Input, Amplifier A.", 4 +IN A (in) "Noninverting Input, Amplifier A.", 6 -OUT A (hiz) "Negative Output, Amplifier A.", 7 +OUT A (hiz) "Positive Output, Amplifier A.", 9 +OUT B (hiz) "Positive Output, Amplifier B.", 10 -OUT B (hiz) "Negative Output, Amplifier B.", 12 +OUT C (hiz) "Positive Output, Amplifier C.", 13 -OUT C (hiz) "Negative Output, Amplifier C.", 15 +IN C (in) "Noninverting Input, Blue Amplifier.", 16 -IN C (in) "Noninverting Input, Amplifier C.", 18 VOCMC (in) "The voltage applied to this pin controls the output common-mode voltage for Amplifier C.", 19 VOCMB (in) "The voltage applied to this pin controls the output common-mode voltage for Amplifier B.", 20 VOCMA (in) "The voltage applied to this pin controls the output common-mode voltage for Amplifier A.", 22 +IN B (in) "Noninverting Input, Amplifier B.", 23 -IN B (in) "Inverting Input, Amplifier B."
part B pins: 2 VS-/GND (power) "Negative Power Supply Voltage. GND is for single 5 V applications.", 5 VS-/GND (power) "Negative Power Supply Voltage. GND is for single 5 V applications.", 8 VS+ (power) "Positive Power Supply Voltage.", 11 VS+ (power) "Positive Power Supply Voltage.", 14 VS-/GND (power) "Negative Power Supply Voltage. GND is for single 5 V applications.", 17 VS+ (power) "Inverting Input, Amplifier C.", 21 VS-/GND (power) "Negative Power Supply Voltage. GND is for single 5 V applications.", 24 VS+ (power) "Positive Power Supply Voltage.", 25 EP (power) "Connect Exposed Paddle to Ground."

## AD8141ACPZ-RL
designator U?
Low Cost, Triple Differential Drivers for Wideband Video, 4.5 to 5.5 V Supply, 255 MHz Bandwidth, Industrial, 24-pin QFN (CP-24-7), Reel; Manufacturer: Analog Devices; PartNumber: AD8141ACPZ-RL; -3dB Bandwidth: 255MHz; 0.1 dB Flatness (MHz): 65; Max Pos Supply: 5.5V; Min Pos Supply: 4.5V; Slew Rate (V/us): 1150; DatasheetVersion: Rev. 0; PackageVersion: 112108-A, 11/2008; PackageReference: CP-24-7; PackageDescription: 24-Pin Lead Frame Chip Scale Package, Body 4 x 4 mm, Pitch 0.5 mm; Supplier 1: Digi-Key; Supplier Part Number 1: AD8141ACPZ-RL-ND; Supplier 2: Mouser; Supplier Part Number 2: 584-AD8141ACPZ-R; Packing: Reel; Mounting Technology: Surface Mount; Code_JEDEC: MO-220-WGGD; ComponentLink1Description: Manufacturer URL; ComponentLink1URL: http://www.analog.com/en/index.html; ComponentLink2Description: Datasheet; ComponentLink2URL: http://www.analog.com/static/imported-files/data_sheets/AD8141_8142.pdf; ComponentLink3Description: Package Specification; ComponentLink3URL: http://www.analog.com/static/imported-files/packages/PKG_PDF/LFCSP(CP)/CP_24_7.pdf; ComponentLink4Description: URL Link1; ComponentLink4URL: Product URL:http://www.analog.com/en/specialty-amplifiers/video-ampsbuffersfilters/ad8141/products/product.html
footprint ADI-CP-24-7_N (QFN, 24-Leads, Body 4x4mm, Pitch 0.5mm, Thermal Pad 2.55x2.55mm, IPC Medium Density)
footprint ADI-CP-24-7_L (QFN, 24-Leads, Body 4x4mm, Pitch 0.5mm, Thermal Pad 2.55x2.55mm, IPC High Density)
footprint ADI-CP-24-7_M (QFN, 24-Leads, Body 4x4mm, Pitch 0.5mm, Thermal Pad 2.55x2.55mm, IPC Low Density)
part A pins: 1 DIS (in) "Disable. This pin places outputs in high-Z condition and lowers supply current.", 3 -IN A (in) "Inverting Input, Amplifier A.", 4 +IN A (in) "Noninverting Input, Amplifier A.", 6 -OUT A (hiz) "Negative Output, Amplifier A.", 7 +OUT A (hiz) "Positive Output, Amplifier A.", 9 +OUT B (hiz) "Positive Output, Amplifier B.", 10 -OUT B (hiz) "Negative Output, Amplifier B.", 12 +OUT C (hiz) "Positive Output, Amplifier C.", 13 -OUT C (hiz) "Negative Output, Amplifier C.", 15 +IN C (in) "Noninverting Input, Blue Amplifier.", 16 -IN C (in) "Noninverting Input, Amplifier C.", 18 VOCMC (in) "The voltage applied to this pin controls the output common-mode voltage for Amplifier C.", 19 VOCMB (in) "The voltage applied to this pin controls the output common-mode voltage for Amplifier B.", 20 VOCMA (in) "The voltage applied to this pin controls the output common-mode voltage for Amplifier A.", 22 +IN B (in) "Noninverting Input, Amplifier B.", 23 -IN B (in) "Inverting Input, Amplifier B."
part B pins: 2 VS-/GND (power) "Negative Power Supply Voltage. GND is for single 5 V applications.", 5 VS-/GND (power) "Negative Power Supply Voltage. GND is for single 5 V applications.", 8 VS+ (power) "Positive Power Supply Voltage.", 11 VS+ (power) "Positive Power Supply Voltage.", 14 VS-/GND (power) "Negative Power Supply Voltage. GND is for single 5 V applications.", 17 VS+ (power) "Inverting Input, Amplifier C.", 21 VS-/GND (power) "Negative Power Supply Voltage. GND is for single 5 V applications.", 24 VS+ (power) "Positive Power Supply Voltage.", 25 EP (power) "Connect Exposed Paddle to Ground."

## AD8142ACPZ-R2
designator U?
Low Cost, Triple Differential Drivers for Wideband Video, 4.5 to 5.5 V Supply, 255 MHz Bandwidth, Industrial, 24-pin QFN (CP-24-7), Reel; Manufacturer: Analog Devices; PartNumber: AD8142ACPZ-R2; -3dB Bandwidth: 265MHz; 0.1 dB Flatness (MHz): 65; Max Pos Supply: 5.5V; Min Pos Supply: 4.5V; Slew Rate (V/us): 1250; DatasheetVersion: Rev. 0; PackageVersion: 112108-A, 11/2008; PackageReference: CP-24-7; PackageDescription: 24-Pin Lead Frame Chip Scale Package, Body 4 x 4 mm, Pitch 0.5 mm; Supplier 1: Newark; Supplier Part Number 1: 18X0799; Supplier 2: Mouser; Supplier Part Number 2: N/A; Packing: Reel; Mounting Technology: Surface Mount; Code_JEDEC: MO-220-WGGD; ComponentLink1Description: Manufacturer URL; ComponentLink1URL: http://www.analog.com/en/index.html; ComponentLink2Description: Datasheet; ComponentLink2URL: http://www.analog.com/static/imported-files/data_sheets/AD8141_8142.pdf; ComponentLink3Description: Package Specification; ComponentLink3URL: http://www.analog.com/static/imported-files/packages/PKG_PDF/LFCSP(CP)/CP_24_7.pdf; ComponentLink4Description: URL Link1; ComponentLink4URL: Product URL:http://www.analog.com/en/specialty-amplifiers/video-ampsbuffersfilters/ad8142/products/product.html
footprint ADI-CP-24-7_N (QFN, 24-Leads, Body 4x4mm, Pitch 0.5mm, Thermal Pad 2.55x2.55mm, IPC Medium Density)
footprint ADI-CP-24-7_L (QFN, 24-Leads, Body 4x4mm, Pitch 0.5mm, Thermal Pad 2.55x2.55mm, IPC High Density)
footprint ADI-CP-24-7_M (QFN, 24-Leads, Body 4x4mm, Pitch 0.5mm, Thermal Pad 2.55x2.55mm, IPC Low Density)
part A pins: 1 DIS (in) "Disable. This pin places outputs in high-Z condition and lowers supply current.", 3 -IN R (in) "Inverting Input, Red Amplifier.", 4 +IN R (in) "Noninverting Input, Red Amplifier.", 6 -OUT R (hiz) "Negative Output, Red Amplifier.", 7 +OUT R (hiz) "Positive Output, Red Amplifier.", 9 +OUT G (hiz) "Positive Output, Green Amplifier.", 10 -OUT G (hiz) "Negative Output, Green Amplifier.", 12 +OUT B (hiz) "Positive Output, Blue Amplifier.", 13 -OUT B (hiz) "Negative Output, Blue Amplifier.", 15 +IN B (in) "Noninverting Input, Blue Amplifier.", 16 -IN B (in) "Inverting Input, Blue Amplifier.", 18 SYNC LEVEL (in) "The voltage applied to this pin with respect to VS-/GND controls the amplitude of the sync pulses that are applied to the common-mode voltages.", 19 HSYNC (in) "Horizontal Sync Pulse Input with Respect to Ground.", 20 VSYNC (in) "Vertical Sync Pulse Input with Respect to Ground.", 22 +IN G (in) "Noninverting Input, Green Amplifier.", 23 -IN G (in) "Inverting Input, Green Amplifier."
part B pins: 2 VS-/GND (power) "Negative Power Supply Voltage. GND is for single 5 V applications.", 5 VS-/GND (power) "Negative Power Supply Voltage. GND is for single 5 V applications.", 8 VS+ (power) "Positive Power Supply Voltage.", 11 VS+ (power) "Positive Power Supply Voltage.", 14 VS-/GND (power) "Negative Power Supply Voltage. GND is for single 5 V applications.", 17 VS+ (power) "Positive Power Supply Voltage.", 21 VS-/GND (power) "Negative Power Supply Voltage. GND is for single 5 V applications.", 24 VS+ (power) "Positive Power Supply Voltage.", 25 EP (power) "Connect Exposed Paddle to Ground."

## AD8142ACPZ-R7
designator U?
Low Cost, Triple Differential Drivers for Wideband Video, 4.5 to 5.5 V Supply, 256 MHz Bandwidth, Industrial, 24-pin QFN (CP-24-7), Reel; Manufacturer: Analog Devices; PartNumber: AD8142ACPZ-R7; -3dB Bandwidth: 265MHz; 0.1 dB Flatness (MHz): 65; Max Pos Supply: 5.5V; Min Pos Supply: 4.5V; Slew Rate (V/us): 1250; DatasheetVersion: Rev. 0; PackageVersion: 112108-A, 11/2008; PackageReference: CP-24-7; PackageDescription: 24-Pin Lead Frame Chip Scale Package, Body 4 x 4 mm, Pitch 0.5 mm; Supplier 1: Digi-Key; Supplier Part Number 1: AD8142ACPZ-R7TR-ND; Supplier 2: Digi-Key; Supplier Part Number 2: AD8142ACPZ-R7CT-ND; Supplier 3: Digi-Key; Supplier Part Number 3: AD8142ACPZ-R7DKR-ND; Supplier 4: Farnell; Supplier Part Number 4: 2008667; Supplier 5: Newark; Supplier Part Number 5: 59T9899; Supplier 6: Mouser; Supplier Part Number 6: 584-AD8142ACPZ-R7; Packing: Reel; Mounting Technology: Surface Mount; Code_JEDEC: MO-220-WGGD; ComponentLink1Description: Manufacturer URL; ComponentLink1URL: http://www.analog.com/en/index.html; ComponentLink2Description: Datasheet; ComponentLink2URL: http://www.analog.com/static/imported-files/data_sheets/AD8141_8142.pdf; ComponentLink3Description: Package Specification; ComponentLink3URL: http://www.analog.com/static/imported-files/packages/PKG_PDF/LFCSP(CP)/CP_24_7.pdf; ComponentLink4Description: URL Link1; ComponentLink4URL: Product URL:http://www.analog.com/en/specialty-amplifiers/video-ampsbuffersfilters/ad8142/products/product.html
footprint ADI-CP-24-7_N (QFN, 24-Leads, Body 4x4mm, Pitch 0.5mm, Thermal Pad 2.55x2.55mm, IPC Medium Density)
footprint ADI-CP-24-7_L (QFN, 24-Leads, Body 4x4mm, Pitch 0.5mm, Thermal Pad 2.55x2.55mm, IPC High Density)
footprint ADI-CP-24-7_M (QFN, 24-Leads, Body 4x4mm, Pitch 0.5mm, Thermal Pad 2.55x2.55mm, IPC Low Density)
part A pins: 1 DIS (in) "Disable. This pin places outputs in high-Z condition and lowers supply current.", 3 -IN R (in) "Inverting Input, Red Amplifier.", 4 +IN R (in) "Noninverting Input, Red Amplifier.", 6 -OUT R (hiz) "Negative Output, Red Amplifier.", 7 +OUT R (hiz) "Positive Output, Red Amplifier.", 9 +OUT G (hiz) "Positive Output, Green Amplifier.", 10 -OUT G (hiz) "Negative Output, Green Amplifier.", 12 +OUT B (hiz) "Positive Output, Blue Amplifier.", 13 -OUT B (hiz) "Negative Output, Blue Amplifier.", 15 +IN B (in) "Noninverting Input, Blue Amplifier.", 16 -IN B (in) "Inverting Input, Blue Amplifier.", 18 SYNC LEVEL (in) "The voltage applied to this pin with respect to VS-/GND controls the amplitude of the sync pulses that are applied to the common-mode voltages.", 19 HSYNC (in) "Horizontal Sync Pulse Input with Respect to Ground.", 20 VSYNC (in) "Vertical Sync Pulse Input with Respect to Ground.", 22 +IN G (in) "Noninverting Input, Green Amplifier.", 23 -IN G (in) "Inverting Input, Green Amplifier."
part B pins: 2 VS-/GND (power) "Negative Power Supply Voltage. GND is for single 5 V applications.", 5 VS-/GND (power) "Negative Power Supply Voltage. GND is for single 5 V applications.", 8 VS+ (power) "Positive Power Supply Voltage.", 11 VS+ (power) "Positive Power Supply Voltage.", 14 VS-/GND (power) "Negative Power Supply Voltage. GND is for single 5 V applications.", 17 VS+ (power) "Positive Power Supply Voltage.", 21 VS-/GND (power) "Negative Power Supply Voltage. GND is for single 5 V applications.", 24 VS+ (power) "Positive Power Supply Voltage.", 25 EP (power) "Connect Exposed Paddle to Ground."

## AD8142ACPZ-RL
designator U?
Low Cost, Triple Differential Drivers for Wideband Video, 4.5 to 5.5 V Supply, 256 MHz Bandwidth, Industrial, 24-pin QFN (CP-24-7), Reel; Manufacturer: Analog Devices; PartNumber: AD8142ACPZ-RL; -3dB Bandwidth: 265MHz; 0.1 dB Flatness (MHz): 65; Max Pos Supply: 5.5V; Min Pos Supply: 4.5V; Slew Rate (V/us): 1250; DatasheetVersion: Rev. 0; PackageVersion: 112108-A, 11/2008; PackageReference: CP-24-7; PackageDescription: 24-Pin Lead Frame Chip Scale Package, Body 4 x 4 mm, Pitch 0.5 mm; Supplier 1: Digi-Key; Supplier Part Number 1: AD8142ACPZ-RL-ND; Supplier 2: Mouser; Supplier Part Number 2: 584-AD8142ACPZ-R; Packing: Reel; Mounting Technology: Surface Mount; Code_JEDEC: MO-220-WGGD; ComponentLink1Description: Manufacturer URL; ComponentLink1URL: http://www.analog.com/en/index.html; ComponentLink2Description: Datasheet; ComponentLink2URL: http://www.analog.com/static/imported-files/data_sheets/AD8141_8142.pdf; ComponentLink3Description: Package Specification; ComponentLink3URL: http://www.analog.com/static/imported-files/packages/PKG_PDF/LFCSP(CP)/CP_24_7.pdf; ComponentLink4Description: URL Link1; ComponentLink4URL: Product URL:http://www.analog.com/en/specialty-amplifiers/video-ampsbuffersfilters/ad8142/products/product.html
footprint ADI-CP-24-7_N (QFN, 24-Leads, Body 4x4mm, Pitch 0.5mm, Thermal Pad 2.55x2.55mm, IPC Medium Density)
footprint ADI-CP-24-7_L (QFN, 24-Leads, Body 4x4mm, Pitch 0.5mm, Thermal Pad 2.55x2.55mm, IPC High Density)
footprint ADI-CP-24-7_M (QFN, 24-Leads, Body 4x4mm, Pitch 0.5mm, Thermal Pad 2.55x2.55mm, IPC Low Density)
part A pins: 1 DIS (in) "Disable. This pin places outputs in high-Z condition and lowers supply current.", 3 -IN R (in) "Inverting Input, Red Amplifier.", 4 +IN R (in) "Noninverting Input, Red Amplifier.", 6 -OUT R (hiz) "Negative Output, Red Amplifier.", 7 +OUT R (hiz) "Positive Output, Red Amplifier.", 9 +OUT G (hiz) "Positive Output, Green Amplifier.", 10 -OUT G (hiz) "Negative Output, Green Amplifier.", 12 +OUT B (hiz) "Positive Output, Blue Amplifier.", 13 -OUT B (hiz) "Negative Output, Blue Amplifier.", 15 +IN B (in) "Noninverting Input, Blue Amplifier.", 16 -IN B (in) "Inverting Input, Blue Amplifier.", 18 SYNC LEVEL (in) "The voltage applied to this pin with respect to VS-/GND controls the amplitude of the sync pulses that are applied to the common-mode voltages.", 19 HSYNC (in) "Horizontal Sync Pulse Input with Respect to Ground.", 20 VSYNC (in) "Vertical Sync Pulse Input with Respect to Ground.", 22 +IN G (in) "Noninverting Input, Green Amplifier.", 23 -IN G (in) "Inverting Input, Green Amplifier."
part B pins: 2 VS-/GND (power) "Negative Power Supply Voltage. GND is for single 5 V applications.", 5 VS-/GND (power) "Negative Power Supply Voltage. GND is for single 5 V applications.", 8 VS+ (power) "Positive Power Supply Voltage.", 11 VS+ (power) "Positive Power Supply Voltage.", 14 VS-/GND (power) "Negative Power Supply Voltage. GND is for single 5 V applications.", 17 VS+ (power) "Positive Power Supply Voltage.", 21 VS-/GND (power) "Negative Power Supply Voltage. GND is for single 5 V applications.", 24 VS+ (power) "Positive Power Supply Voltage.", 25 EP (power) "Connect Exposed Paddle to Ground."